# EAGLE library part TPS7A2118PQWDRBRQ1 (library TPS7A2118PQWDRBRQ1)
Linear Voltage Regulator IC Positive Fixed 1 Output 500mA 8-SON (3x3), -40C ~ 150C (TJ) Source: Datasheet <https://www.ti.com/lit/gpn/tps7a21-q1>
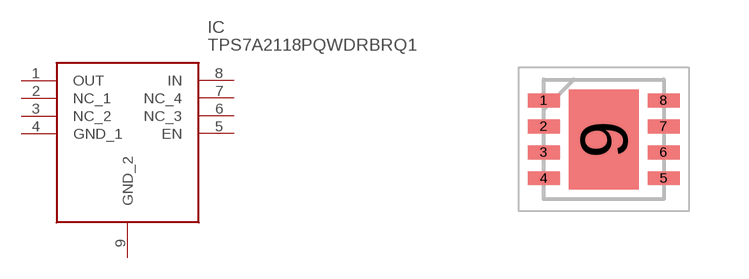
[diagram p0: symbol with the pads of SON65P300X300X100-9N; footprint SON65P300X300X100-9N]

Designator prefix IC

## TPS7A2118PQWDRBRQ1 (Arrow_Part_Number: TPS7A2118PQWDRBRQ1; Arrow_Price-Stock: https://www.arrow.com/en/products/tps7a2118pqwdrbrq1/texas-instruments?utm_currency=USD&region=nac; Description: Linear Voltage Regulator IC Positive Fixed 1 Output 500mA 8-SON (3x3), -40C ~ 150C (TJ); Height: 1mm; Manufacturer_Name: Texas Instruments; Manufacturer_Part_Number: TPS7A2118PQWDRBRQ1; Mouser_Part_Number: 595-7A2118PQWDRBRQ1; Mouser_Price-Stock: https://www.mouser.co.uk/ProductDetail/Texas-Instruments/TPS7A2118PQWDRBRQ1?qs=dbcCsuKDzFX2e%252Bp94sZFQg%3D%3D)  [SON65P300X300X100-9N]
1  OUT
2  NC_1
3  NC_2
4  GND_1
5  EN
6  NC_3
7  NC_4
8  IN
9  GND_2

## Footprint SON65P300X300X100-9N (pad centres in mm)
DRB0008J
smd 0.8 x 0.35: 1 -1.5,0.975; 2 -1.5,0.325; 3 -1.5,-0.325; 4 -1.5,-0.975; 5 1.5,-0.975; 6 1.5,-0.325; 7 1.5,0.325; 8 1.5,0.975
smd 1.75 x 2.5: 9 0,0